# EAGLE library part MAX9926 (library U-Sensor)
MAX9926 [MAXIM,MAX9926] AMP DIFF ADAPTIVE VARIABLE RELUCTANCE
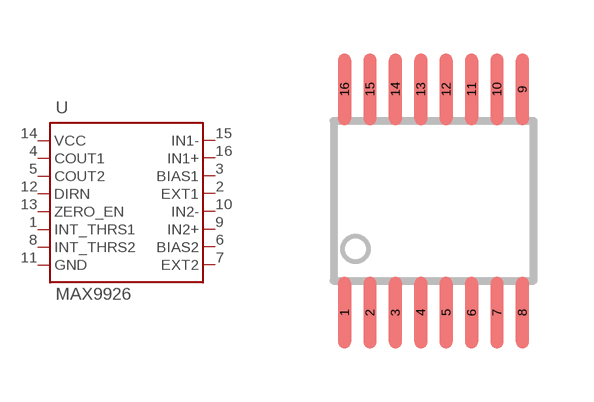
[diagram p2: symbol with the pads of 16QSOP; footprint 16QSOP]

Designator prefix U

## MAX9926  [16QSOP]
1  INT_THRS1  in
2  EXT1
3  BIAS1  in
4  COUT1  out
5  COUT2  out
6  BIAS2
7  EXT2
8  INT_THRS2  in
9  IN2+
10  IN2-
11  GND  in
12  DIRN  in
13  ZERO_EN  in
14  VCC  out
15  IN1-  in
16  IN1+  in

## Footprint 16QSOP (pad centres in mm)
16POS QUARTER-SIZE SMALL-OUTLINE PACKAGE 16QSOP .150"W .025"PITCH
smd 0.33 x 1.8: 1 -2.223,-2.794; 2 -1.587,-2.794; 3 -0.953,-2.794; 4 -0.318,-2.794; 5 0.318,-2.794; 6 0.953,-2.794; 7 1.587,-2.794; 8 2.223,-2.794; 9 2.223,2.794; 10 1.587,2.794; 11 0.953,2.794; 12 0.318,2.794; 13 -0.318,2.794; 14 -0.953,2.794; 15 -1.587,2.794; 16 -2.223,2.794